# Altium footprint library 10029449-002TLF.PcbLib: 1 footprints
Each footprint in its own frame and in the unit in brackets; x right, y up, seen from the top. Pads: shape width x height; smd on the part's side, far side on the other; paste and mask are expansions set on the pad; w line width, h text height; cw(c..) or ccw(c..) is an arc to the next point about the centre after c.
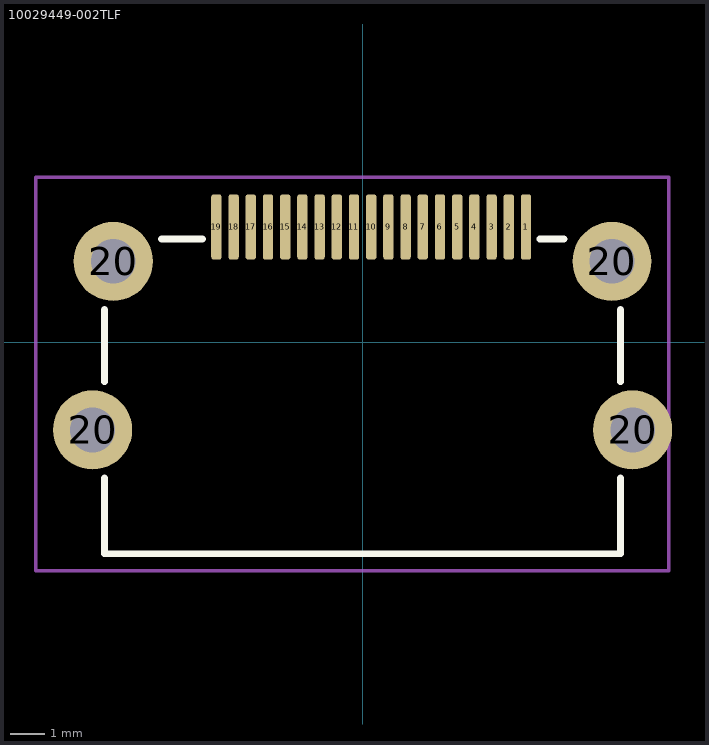
[diagram p0: the footprint, top view; thin cyan lines are the x and y axes]

## 10029449-002TLF [mm]
pads (23):
  rrect50% 0.3x1.9 smd: 1(4.75,3.35) 2(4.25,3.35) 3(3.75,3.35) 4(3.25,3.35) 5(2.75,3.35) 6(2.25,3.35) 7(1.75,3.35) 8(1.25,3.35) 9(0.75,3.35) 10(0.25,3.35) 11(-0.25,3.35) 12(-0.75,3.35) 13(-1.25,3.35) 14(-1.75,3.35) 15(-2.25,3.35) 16(-2.75,3.35) 17(-3.25,3.35) 18(-3.75,3.35) 19(-4.25,3.35)
  round 2.3 hole 1.3: 20(-7.85,-2.55) 20(-7.25,2.35) 20(7.25,2.35) 20(7.85,-2.55)
Top Overlay:
  lines w0.2: -7.5,-3.95 -7.5,-6.15 7.5,-6.15 7.5,-3.95 ; -7.5,-1.15 -7.5,0.95 ; -5.85,3 -4.65,3 ; 5.15,3 5.85,3 ; 7.5,-1.15 7.5,0.95
Top Courtyard:
  lines w0.1: -9.5,-6.65 8.9,-6.65 8.9,4.8 -9.5,4.8 -9.5,-6.65
3D body "10029449-002TLF--3DModel-STEP-554624.STEP": height 15.4, standoff -2.1, extent -8.1,-6.15 8.1,3.75